# Altium footprint library ICs - Isolated Operational Amplifiers.PcbLib: 1 footprints
Each footprint in its own frame and in the unit in brackets; x right, y up, seen from the top. Pads: shape width x height; smd on the part's side, far side on the other; paste and mask are expansions set on the pad; w line width, h text height; cw(c..) or ccw(c..) is an arc to the next point about the centre after c.
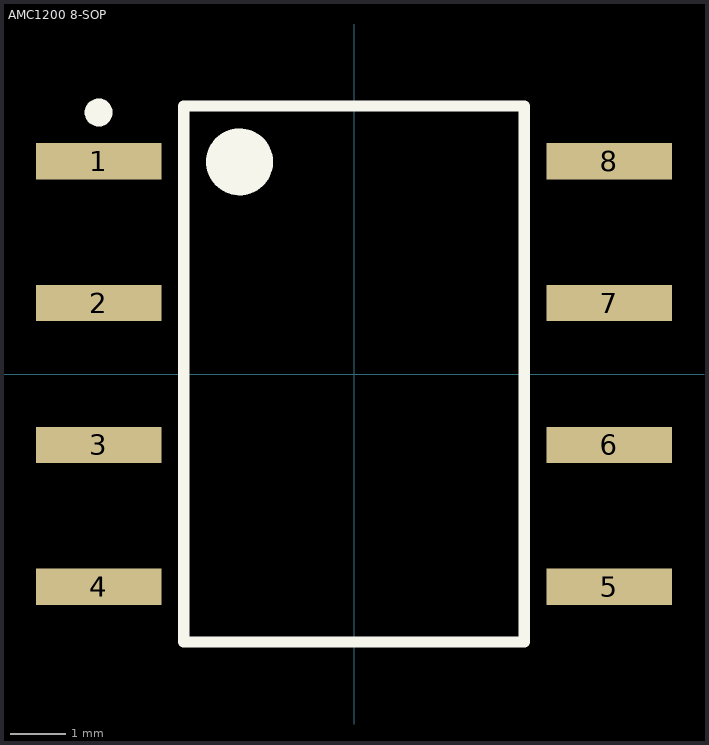
[diagram p0: the footprint, top view; thin cyan lines are the x and y axes]

## AMC1200 8-SOP [mm] "Isolation Amplifier 1 Circuit Differential 8-SOP"
height 4.85
pads (8):
  rect 2.25x0.65 smd: 1(-4.575,3.81) 2(-4.575,1.27) 3(-4.575,-1.27) 4(-4.575,-3.81) 5(4.575,-3.81) 6(4.575,-1.27) 7(4.575,1.27) 8(4.575,3.81)
Top Overlay:
  circle w0.25: c-4.575,4.685 r0.125
  circle w0.6: c-2.05,3.8 r0.3
  lines w0.2: -3.05,-4.8 -3.05,4.8 3.05,4.8 3.05,-4.8 -3.05,-4.8
3D body "User Library-sop8-2_54.step": height 2.05, standoff 0, extent -3.4,-4.699 3.4,4.701